# Altium schematic symbol library Components - 08.07.23 - 16.31.SchLib: 1 symbol
Pins are listed as number, name and electrical type; pins without a type are passive.

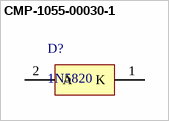
[diagram p0: symbol CMP-1055-00030-1]

## CMP-1055-00030-1
designator D?, comment 1N5820
Rectifier, 2-Pin Axial_Lead, Bulk Bag; Manufacturer: On Semiconductor; Note1: 0; IFSM Max (A): 80; Configuration: Single; PackageReference: AXIAL_LEAD-2-267-05; ComponentLink3URL: http://www.onsemi.com/pub_link/Collateral/267-05.PDF; ComponentLink1Description: Manufacturer URL; PartNumber: 1N5820; ComponentLink2URL: http://www.onsemi.cn/pub_link/Collateral/1N5820-D.PDF; DatasheetVersion: Rev. 10; PackageVersion: Rev. G, 06/2000; ComponentLink2Description: Datasheet; Packing: Bulk Bag; PackageDescription: 2-Pin, Axial Lead, Diameter 5.05 mm; Mounting Technology: Through Hole; ComponentLink1URL: http://www.onsemi.com/; ComponentLink3Description: Package Specification; RoHS: FALSE
footprint ONSC-AXIAL_LEAD-2-267-05_V (AXIAL, 2-Leads, Diameter 5.05mm)
pins: 1 K, 2 A